# EAGLE library part HEX_INVERTER (library custom)
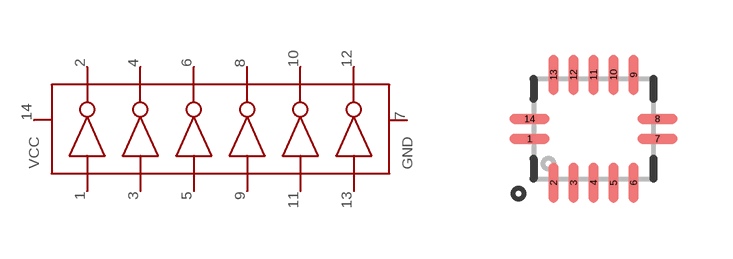
[diagram p10: symbol with the pads of HVQFN-14; footprint HVQFN-14]

Designator prefix -

## HEX_INVERTER  [HVQFN-14]
1  1_1A
2  2_1Y
3  3_2A
4  4_2Y
5  5_3A
6  6_3Y
7  GND
8  8_4Y
9  9_4A
10  10_5Y
11  11_5A
12  12_6Y
13  13_6A
14  VCC

## Footprint HVQFN-14 (pad centres in mm)
smd 1 x 0.25: 1 -1.6,-0.25; 7 1.6,-0.25; 8 1.6,0.25; 14 -1.6,0.25
smd 0.25 x 1: 2 -1,-1.35; 3 -0.5,-1.35; 4 0,-1.35; 5 0.5,-1.35; 6 1,-1.35; 9 1,1.35; 10 0.5,1.35; 11 0,1.35; 12 -0.5,1.35; 13 -1,1.35